# EAGLE library part 61000613321 (library Wuerth_Elektronik_eiCan_Pin_&_Socked_Headers_v1.3)
WR-PHD 2.54mm SMT Socket Header, 6 Pins
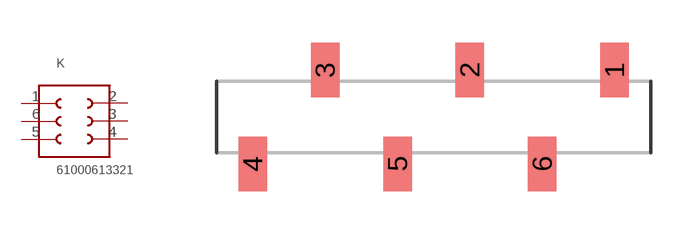
[diagram p240: symbol with the pads of 61000613321; footprint 61000613321]

Designator prefix K

## 61000613321  [61000613321]
1  1  pas
2  6  pas
3  5  pas
4  4  pas
5  3  pas
6  2  pas

## Footprint 61000613321 (pad centres in mm)
WR-PHD 2.54mm SMT Socket Header, 6 Pins
smd 1 x 1.91: 1 6.35,1.645; 2 1.27,1.645; 3 -3.81,1.645; 4 -6.35,-1.645; 5 -1.27,-1.645; 6 3.81,-1.645